# EAGLE library part ESP32 (library Bits_library_eagle)
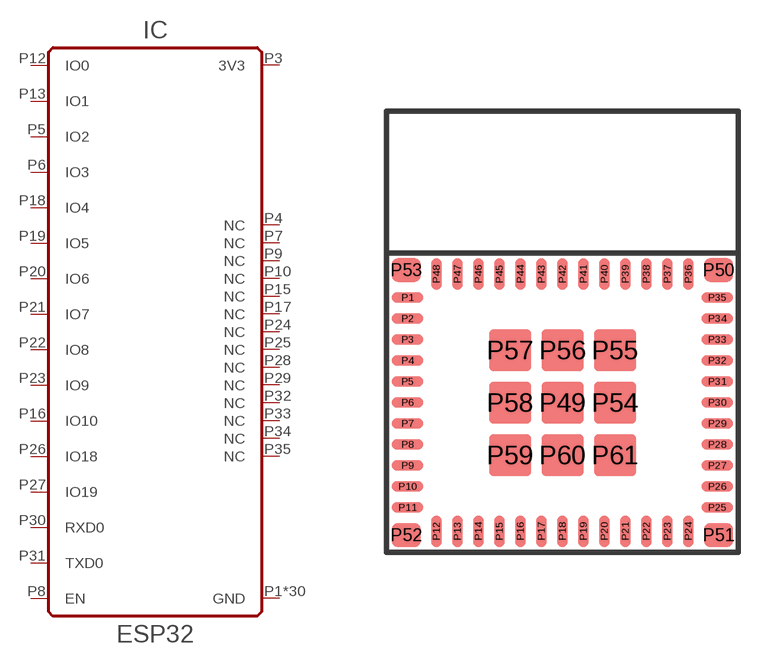
[diagram p52: symbol with the pads of ESP32C3MINI1; footprint ESP32C3MINI1]

Designator prefix IC

## ESP32  [ESP32C3MINI1]
P1  GND  pwr
P2  GND  pwr
P3  3V3  pwr
P4  NC  nc
P5  IO2
P6  IO3
P7  NC  nc
P8  EN
P9  NC  nc
P10  NC  nc
P11  GND  pwr
P12  IO0
P13  IO1
P14  GND  pwr
P15  NC  nc
P16  IO10
P17  NC  nc
P18  IO4
P19  IO5
P20  IO6
P21  IO7
P22  IO8
P23  IO9
P24  NC  nc
P25  NC  nc
P26  IO18
P27  IO19
P28  NC  nc
P29  NC  nc
P30  RXD0
P31  TXD0
P32  NC  nc
P33  NC  nc
P34  NC  nc
P35  NC  nc
P36  GND  pwr
P37  GND  pwr
P38  GND  pwr
P39  GND  pwr
P40  GND  pwr
P41  GND  pwr
P42  GND  pwr
P43  GND  pwr
P44  GND  pwr
P45  GND  pwr
P46  GND  pwr
P47  GND  pwr
P48  GND  pwr
P49  GND  pwr
P50  GND  pwr
P51  GND  pwr
P52  GND  pwr
P53  GND  pwr
P54  GND  pwr
P55  GND  pwr
P56  GND  pwr
P57  GND  pwr
P58  GND  pwr
P59  GND  pwr
P60  GND  pwr
P61  GND  pwr

## Footprint ESP32C3MINI1 (pad centres in mm)
smd 1.2 x 0.4: P1 -5.9,4; P2 -5.9,3.2; P3 -5.9,2.4; P4 -5.9,1.6; P5 -5.9,0.8; P6 -5.9,0; P7 -5.9,-0.8; P8 -5.9,-1.6; P9 -5.9,-2.4; P10 -5.9,-3.2; P11 -5.9,-4; P25 5.9,-4; P26 5.9,-3.2; P27 5.9,-2.4; P28 5.9,-1.6; P29 5.9,-0.8; P30 5.9,0; P31 5.9,0.8; P32 5.9,1.6; P33 5.9,2.4; P34 5.9,3.2; P35 5.9,4
smd 0.4 x 1.2: P12 -4.8,-4.9; P13 -4,-4.9; P14 -3.2,-4.9; P15 -2.4,-4.9; P16 -1.6,-4.9; P17 -0.8,-4.9; P18 0,-4.9; P19 0.8,-4.9; P20 1.6,-4.9; P21 2.4,-4.9; P22 3.2,-4.9; P23 4,-4.9; P24 4.8,-4.9; P36 4.8,4.9; P37 4,4.9; P38 3.2,4.9; P39 2.4,4.9; P40 1.6,4.9; P41 0.8,4.9; P42 0,4.9; P43 -0.8,4.9; P44 -1.6,4.9; P45 -2.4,4.9; P46 -3.2,4.9; P47 -4,4.9; P48 -4.8,4.9
smd 1.6 x 1.6: P49 0,0; P54 2,0; P55 2,2; P56 0,2; P57 -2,2; P58 -2,0; P59 -2,-2; P60 0,-2; P61 2,-2
smd 1.1 x 0.9: P50 5.95,5.05; P51 5.95,-5.05; P52 -5.95,-5.05; P53 -5.95,5.05